# EAGLE library part LD1117D33TR_LD1117D33TR (library GPS-IoT-Mezzanine)
LD1117 Series 1300 mA Low Drop Fixed Positive Voltage Regulator - SOIC-8 Check prices <https://pricing.snapeda.com/parts/LD1117D33TR/STMicroelectronics/view-part?ref=eda>
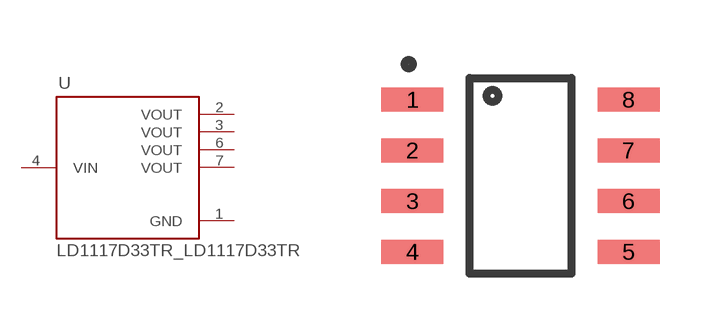
[diagram p2: symbol with the pads of LD1117D33TR_SOIC127P600X175-8N; footprint LD1117D33TR_SOIC127P600X175-8N]

Designator prefix U

## LD1117D33TR_LD1117D33TR (AVAILABILITY: Warning; DESCRIPTION: Linear Voltage Regulator IC 1 Output 800mA 8-SO; MF: STMicroelectronics; MP: LD1117D33TR; PACKAGE: SO-8 STMicroelectronics; PRICE: None; PURCHASE-URL: https://pricing.snapeda.com/search/part/LD1117D33TR/?ref=eda)  [LD1117D33TR_SOIC127P600X175-8N]
1  GND  pwr
2  VOUT  out
3  VOUT  out
4  VIN  in
6  VOUT  out
7  VOUT  out

## Footprint LD1117D33TR_SOIC127P600X175-8N (pad centres in mm)
smd 1.55 x 0.6: 1 -2.7,1.905; 2 -2.7,0.635; 3 -2.7,-0.635; 4 -2.7,-1.905; 5 2.7,-1.905; 6 2.7,-0.635; 7 2.7,0.635; 8 2.7,1.905